# Altium footprint library PCBLIB2.PcbLib: 4 footprints
Each footprint in its own frame and in the unit in brackets; x right, y up, seen from the top. Pads: shape width x height; smd on the part's side, far side on the other; paste and mask are expansions set on the pad; w line width, h text height; cw(c..) or ccw(c..) is an arc to the next point about the centre after c.
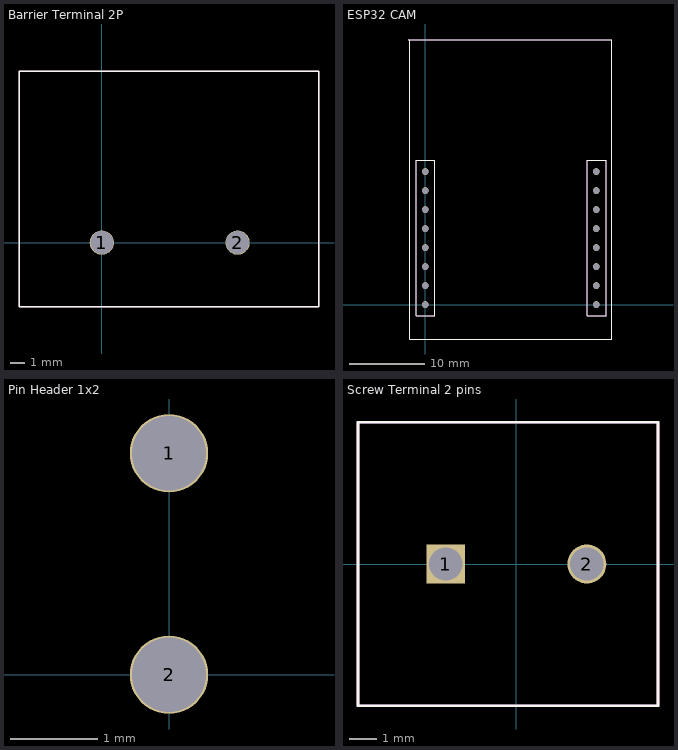
[diagram p0: the footprints below, top view; thin cyan lines are the x and y axes]

## Barrier Terminal 2P [mm]
pads (2):
  round 1.7 hole 1.6 mask+0.2: 1(0,0) 2(9.5,0)
Top Overlay:
  lines w0.1: -5.8,-4.5 15.2,-4.5 15.2,12 -5.8,12 -5.8,-4.5
  text ".Designator" at -3.946,13.821 h0.5
Mechanical 29:
  lines w0.1: -5.8,-4.5 15.2,-4.5 15.2,12 -5.8,12 -5.8,-4.5
  text ".Designator" at -3.946,13.021 h0.5
3D body "User Library-Screw terminal block 9_5mm.step": height 18.5, standoff -4.99, extent -5.825,-4.5 15.225,12

## ESP32 CAM [mm]
pads (16):
  round 0.9 hole 0.85: 0(22.86,5.08) 1(22.86,15.24) 2(0,15.24) 3(22.86,12.7) 3.3/5V(22.86,10.16) 3.3V(22.86,0) 4(0,17.78) 5V(0,0) 12(0,5.08) 13(0,7.62) 14(0,12.7) 15(0,10.16) 16(22.86,2.54) GND(0,2.54) GNDR(22.86,7.62) GRND(22.86,17.78)
Top Overlay:
  lines w0.1: -2.2,35.4 cw(c-2.441,35.159) -2.1,35.159 -2.1,-4.6 24.9,-4.6 24.9,35.4 -2.2,35.4 ; -1.2,-1.5 1.3,-1.5 1.3,19.3 -1.2,19.3 -1.2,-1.5 ; 21.66,-1.5 24.16,-1.5 24.16,19.3 21.66,19.3 21.66,-1.5
  text ".Designator" at 0.854,22.421 h0.5
Mechanical 29:
  lines w0.1: 21.66,-1.5 24.16,-1.5 ; 21.66,-1.5 21.66,19.3 ; 21.66,-1.5 24.16,-1.5 ; 21.66,-1.5 21.66,19.3 ; 21.66,19.3 24.16,19.3 ; 21.66,19.3 24.16,19.3 ; 24.16,-1.5 24.16,19.3 ; 24.16,-1.5 24.16,19.3 ; -2.1,-4.6 24.9,-4.6 24.9,35.4 -2.1,35.4 -2.1,-4.6 ; -1.2,-1.5 1.3,-1.5 1.3,19.3 -1.2,19.3 -1.2,-1.5
  text ".Designator" at 0.854,21.621 h0.5
3D body "Downloads_STP_61300811821_rev1.stp": height 5.36, standoff -6.25, extent 21.61,-1.51 24.11,19.31
3D body "Downloads_STP_61300811821_rev1.stp": height 5.36, standoff -6.25, extent 21.61,-1.51 24.11,19.31
3D body "Downloads_STP_61300811821_rev1.stp": height 5.36, standoff -6.25, extent -1.25,-1.51 1.25,19.31
3D body "Downloads_STP_61300811821_rev1.stp": height 5.36, standoff -6.25, extent 21.61,-1.51 24.11,19.31
3D body "User Library-ESP32-cam.step": height -1.8, standoff -18.6, extent -2.1,-4.6 24.9,35.4

## Pin Header 1x2 [mm]
pads (2):
  round 0.9 hole 0.85: 1(0,2.54) 2(0,0)
3D body "User Library-Header1x2.STEP": height 8.29, standoff -2.69, extent -1.3,-1.29 1.24,3.79

## Screw Terminal 2 pins [mm]
pads (2):
  rect 1.4x1.4 hole 1.2 mask+0.102: 1(-2.54,0)
  round 1.4 hole 1.2 mask+0.102: 2(2.54,0)
Top Overlay:
  lines w0.1: -5.7,-5.1 5.1,-5.1 5.1,5.1 -5.7,5.1 -5.7,-5.1
  text ".Designator" at 0.254,0.421 h0.5
Assembly Notes:
  lines w0.1: -5.7,-5.1 5.1,-5.1 5.1,5.1 -5.7,5.1 -5.7,-5.1
  text ".Designator" at 0.254,0.721 h0.5
3D body "CUI_DEVICES_TB004-508-02GR.step": height 14.1, standoff -3.5, extent -5.66,-5.1 5.1,5.1